# Altium footprint library SWD.PcbLib: 1 footprints
Each footprint in its own frame and in the unit in brackets; x right, y up, seen from the top. Pads: shape width x height; smd on the part's side, far side on the other; paste and mask are expansions set on the pad; w line width, h text height; cw(c..) or ccw(c..) is an arc to the next point about the centre after c.
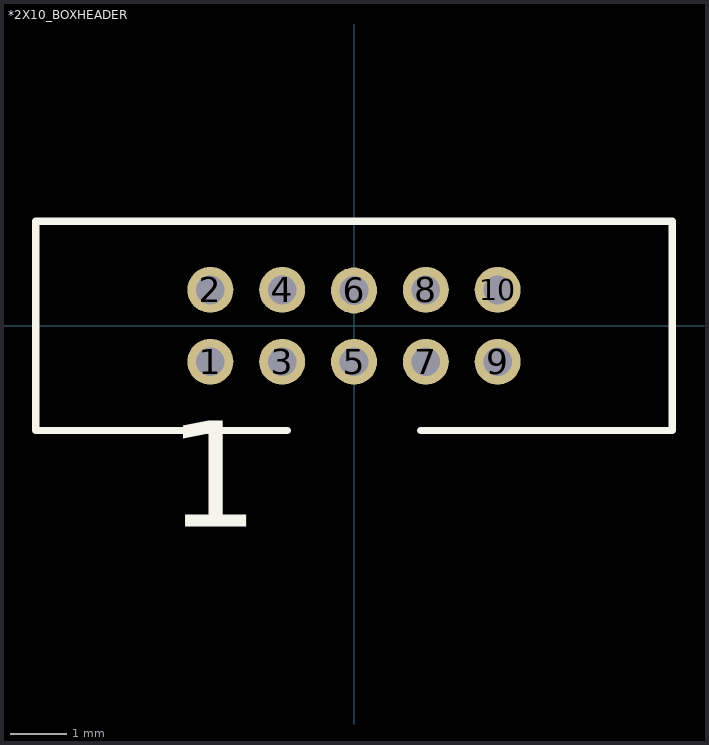
[diagram p0: the footprint, top view; thin cyan lines are the x and y axes]

## *2X10_BOXHEADER [mil]
pads (10):
  round 32 hole 20: 1(-100,-25) 2(-100,25) 3(-50,-25) 4(-50,25) 5(0,-25) 6(0,24.61) 7(50,-25) 8(50,25) 9(100,-25) 10(100,25)
Top Overlay:
  lines w5: -46.26,-72.83 -221.46,-72.83 -221.46,72.83 221.46,72.83 221.46,-72.83 46.26,-72.83
  text "1" at -130.02,-139.86 h73.82